# Altium footprint library ERA-2AEB4990X.PcbLib: 3 footprints
Each footprint in its own frame and in the unit in brackets; x right, y up, seen from the top. Pads: shape width x height; smd on the part's side, far side on the other; paste and mask are expansions set on the pad; w line width, h text height; cw(c..) or ccw(c..) is an arc to the next point about the centre after c.
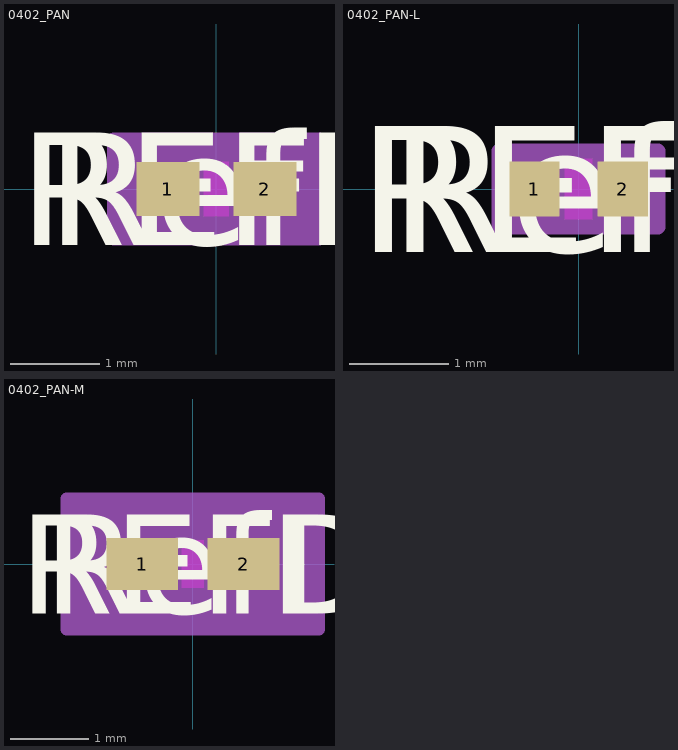
[diagram p0: the footprints below, top view; thin cyan lines are the x and y axes]

## 0402_PAN [mil]
pads (2):
  rect 28x24 smd paste+0 mask+0: 1(-21.5,0) 2(21.5,0)
Top Layer keep-out:
  region: -5.5,-10 -5.5,10 5.5,10 5.5,-10
Top Overlay:
  text "RefDes" at -75,-25 h50
  text "REFDES" at -87.5,-25 h50
Keep-Out Layer:
  region: -5.5,-12 -5.5,12 5.5,12 5.5,-12
Mechanical 13:
  lines w1: -21.5,-12 -21.5,12 ; -21.5,-12 -7.5,-12 -7.5,12 -21.5,12 ; -21.5,-12 21.5,-12 ; -21.5,-12 -21.5,12 ; -21.5,12 21.5,12 ; 21.5,-12 7.5,-12 7.5,12 21.5,12 ; 21.5,-12 21.5,12 ; 21.5,-12 21.5,12
  text "RefDes2" at -87.5,-25 h50
Mechanical 15:
  region: 45.5,-22 -45.5,-22 -45.5,22 45.5,22
  lines w6: -45.5,-22 -45.5,22 45.5,22 45.5,-22 -45.5,-22
3D body "0402_PAN.step": height 15.98, standoff 0, extent -21.5,-12.01 21.5,12.01

## 0402_PAN-L [mil]
pads (2):
  rect 20x22 smd paste+0 mask+0: 1(-17.5,0) 2(17.5,0)
Top Layer keep-out:
  region: -5.5,-10 -5.5,10 5.5,10 5.5,-10
Top Overlay:
  text "RefDes" at -75,-25 h50
  text "REFDES" at -87.5,-25 h50
Keep-Out Layer:
  region: -5.5,-12 -5.5,12 5.5,12 5.5,-12
Mechanical 13:
  lines w1: -21.5,-12 -21.5,12 ; -21.5,-12 -7.5,-12 -7.5,12 -21.5,12 ; -21.5,-12 21.5,-12 ; -21.5,-12 -21.5,12 ; -21.5,12 21.5,12 ; 21.5,-12 7.5,-12 7.5,12 21.5,12 ; 21.5,-12 21.5,12 ; 21.5,-12 21.5,12
  text "RefDes2" at -87.5,-25 h50
Mechanical 15:
  region: 31.5,-15 -31.5,-15 -31.5,15 31.5,15
  lines w6: -31.5,-15 -31.5,15 31.5,15 31.5,-15 -31.5,-15
3D body "0402_PAN.step": height 15.98, standoff 0, extent -21.5,-12.01 21.5,12.01

## 0402_PAN-M [mil]
pads (2):
  rect 36x26 smd paste+0 mask+0: 1(-25.5,0) 2(25.5,0)
Top Layer keep-out:
  region: -5.5,-10 -5.5,10 5.5,10 5.5,-10
Top Overlay:
  text "RefDes" at -75,-25 h50
  text "REFDES" at -87.5,-25 h50
Keep-Out Layer:
  region: -5.5,-12 -5.5,12 5.5,12 5.5,-12
Mechanical 13:
  lines w1: -21.5,-12 -21.5,12 ; -21.5,-12 -7.5,-12 -7.5,12 -21.5,12 ; -21.5,-12 21.5,-12 ; -21.5,-12 -21.5,12 ; -21.5,12 21.5,12 ; 21.5,-12 7.5,-12 7.5,12 21.5,12 ; 21.5,-12 21.5,12 ; 21.5,-12 21.5,12
  text "RefDes2" at -87.5,-25 h50
Mechanical 15:
  region: 63.5,-33 -63.5,-33 -63.5,33 63.5,33
  lines w6: -63.5,-33 -63.5,33 63.5,33 63.5,-33 -63.5,-33
3D body "0402_PAN.step": height 15.98, standoff 0, extent -21.5,-12.01 21.5,12.01